# Altium footprint library MB631.PcbLib: 50 footprints (part 2 of 4)
Each footprint in its own frame and in the unit in brackets; x right, y up, seen from the top. Pads: shape width x height; smd on the part's side, far side on the other; paste and mask are expansions set on the pad; w line width, h text height; cw(c..) or ccw(c..) is an arc to the next point about the centre after c.
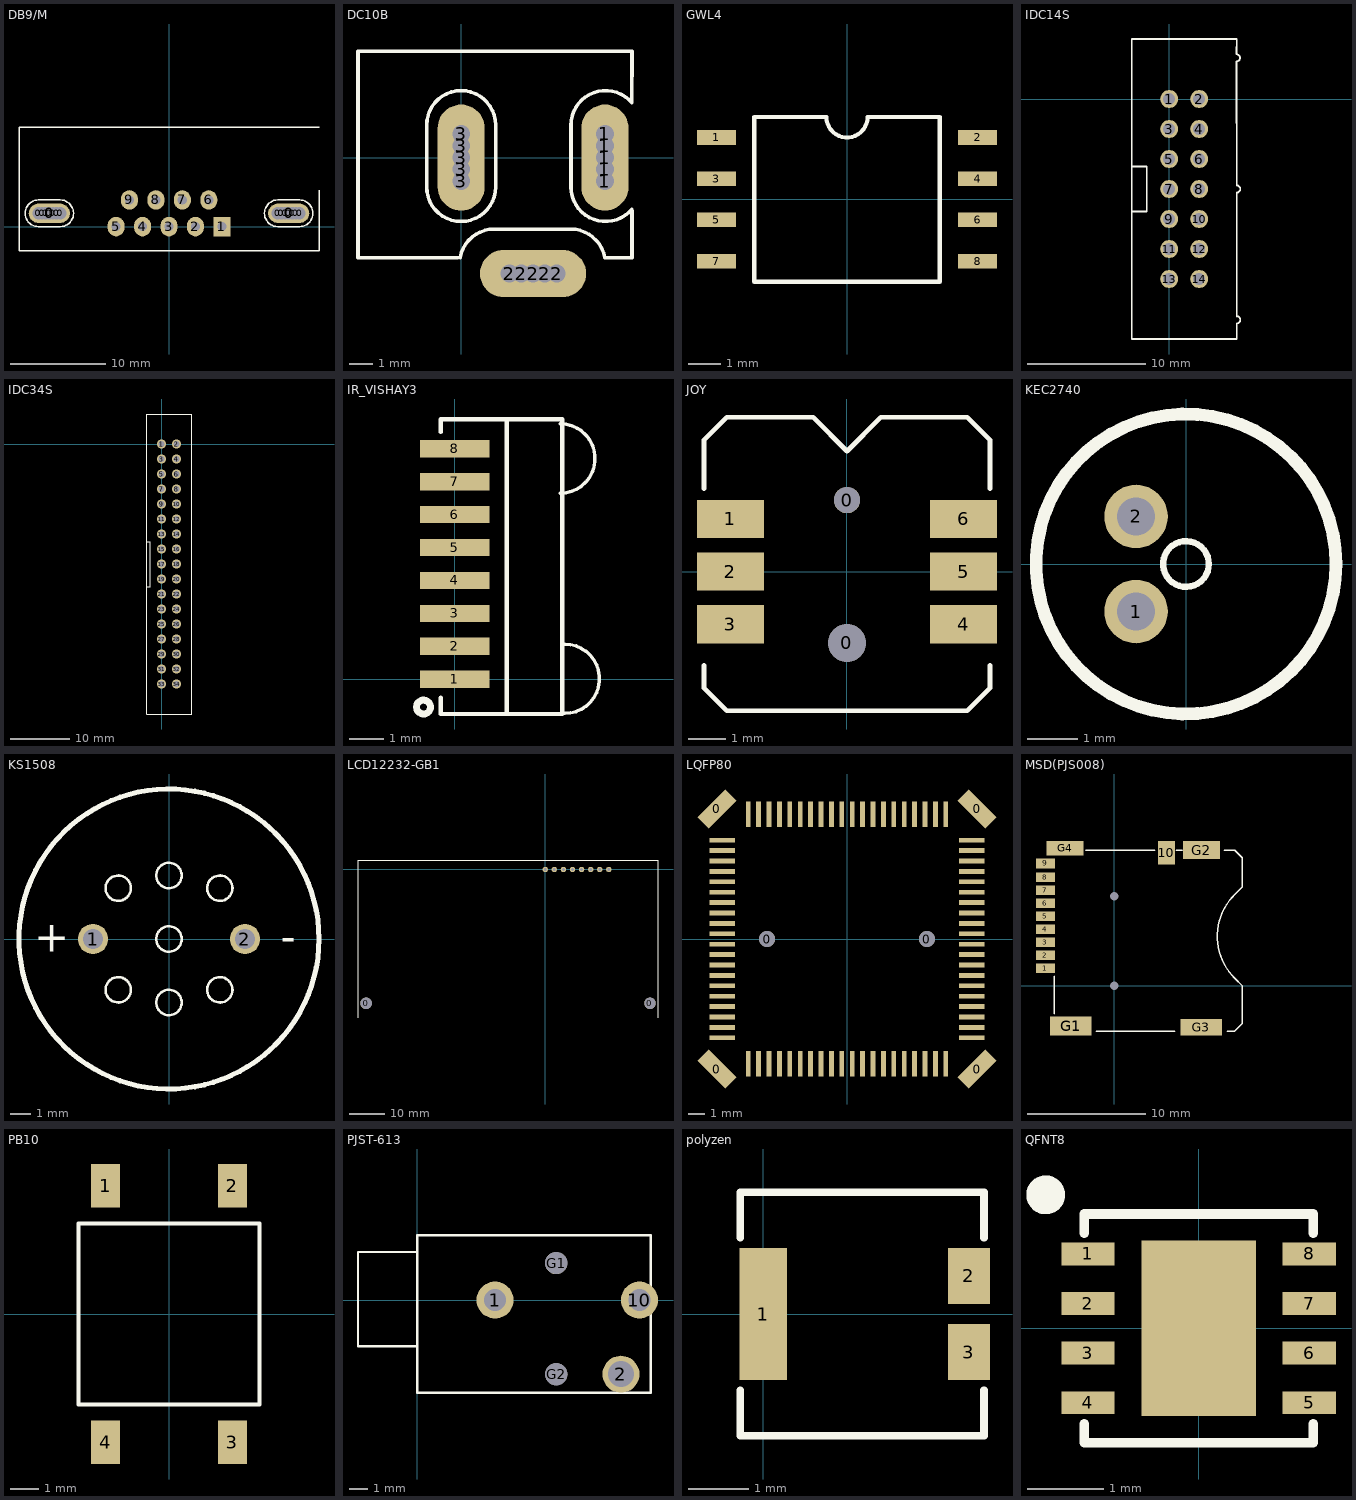
[diagram p1: the footprints below, top view; thin cyan lines are the x and y axes]

## DB9/M [mil]
pads (25):
  round 50 hole 50: 0(-538,55) 0(-523,55) 0(-508,55) 0(-493,55) 0(-478,55) 0(-463,55) 0(-448,55) 0(448,55) 0(463,55) 0(478,55) 0(493,55) 0(508,55) 0(523,55) 0(538,55)
  oval 170x80 hole 50: 0(-493,55) 0(493,55)
  rect 70x80 hole 38: 1(218,0)
  oval 70x80 hole 38: 2(109,0) 3(0,0) 4(-109,0) 5(-218,0) 6(164,110) 7(55,110) 8(-54,110) 9(-163,110)
Top Overlay:
  lines w6: 618,150 618,-100 -618,-100 -618,410 618,410 ; -538,0 cw(c-538,55) -538,110 -448,110 cw(c-448,55) -448,0 -538,0 ; 448,0 cw(c448,55) 448,110 538,110 cw(c538,55) 538,0 448,0

## DC10B [mil]
pads (15):
  round 45 hole 30: 1(244.09,-40) 1(244.09,-20) 1(244.09,20) 1(244.09,40) 2(82.05,-196.85) 2(102.05,-196.85) 2(142.05,-196.85) 2(162.05,-196.85) 3(0,-40) 3(0,-20) 3(0,20) 3(0,40)
  oval 80x180 hole 30: 1(244.09,0) 3(0,0)
  oval 180x80 hole 30: 2(122.05,-196.85)
Top Overlay:
  lines w6: -6,-170 -175,-170 -175,180 290,180 289.83,92.62 ccw(c245,55) 186.48,55 186.48,-50 ccw(c245,-50) 289.83,-87.62 ; -1.63,-169.84 cw(c56,-180) 56,-121.48 186,-121.48 cw(c186,-180) 243.63,-169.84 ; 245,-170 290,-170 290,-90 ; -58.52,55 cw(c0,55) 58.52,55 ; -58.52,55 -58.52,55 ; -58.52,55 -58.52,-50 ccw(c0,-50) 58.52,-50 58.52,55 ; 58.52,55 58.52,55

## GWL4 [mm]
pads (8):
  rect 1.2x0.45 smd: 1(-4.02,1.905) 2(4.02,1.905) 3(-4.02,0.635) 4(4.02,0.635) 5(-4.02,-0.635) 6(4.02,-0.635) 7(-4.02,-1.905) 8(4.02,-1.905)
Top Overlay:
  lines w0.127: -2.858,-2.54 -2.858,2.54 -0.635,2.54 ccw(c0,2.54) 0.635,2.54 2.858,2.54 2.858,-2.54 -2.858,-2.54

## IDC14S [mil]
pads (14):
  round 60 hole 40: 1(0,0) 2(100,0) 3(0,-100) 4(100,-100) 5(0,-200) 6(100,-200) 7(0,-300) 8(100,-300) 9(0,-400) 10(100,-400) 11(0,-500) 12(100,-500) 13(0,-600) 14(100,-600)
Top Overlay:
  lines w6: 224,124 224,125 ; 224,149 cw(c224,137) 224,125 ; 224,150 225,200 -125,200 -125,-225 ; 225,-750 225,-800 -125,-800 -125,-375 ; 225,-748 ccw(c225,-736) 225,-724 ; 225,-726 225,-314 ; 225,-312 ccw(c225,-300) 225,-288 224,125 ; -125,-375 -75,-375 -75,-225 -125,-225 ; -125,-375 -125,-225

## IDC34S [mil]
pads (34):
  round 60 hole 40: 1(0,0) 2(100,0) 3(0,-100) 4(100,-100) 5(0,-200) 6(100,-200) 7(0,-300) 8(100,-300) 9(0,-400) 10(100,-400) 11(0,-500) 12(100,-500) 13(0,-600) 14(100,-600) 15(0,-700) 16(100,-700) 17(0,-800) 18(100,-800) 19(0,-900) 20(100,-900) 21(0,-1000) 22(100,-1000) 23(0,-1100) 24(100,-1100) 25(0,-1200) 26(100,-1200) 27(0,-1300) 28(100,-1300) 29(0,-1400) 30(100,-1400) 31(0,-1500) 32(100,-1500) 33(0,-1600) 34(100,-1600)
Top Overlay:
  lines w5: -100,-950 -75,-950 -75,-650 -100,-650
  lines w6: -100,-1800 200,-1800 200,200 -100,200 -100,-650 -100,-950 -100,-1800

## IR_VISHAY3 [mm]
pads (8):
  rect 2x0.5 smd: 1(0,0) 2(0,0.95) 3(0,1.9) 4(0,2.85) 5(0,3.8) 6(0,4.75) 7(0,5.7) 8(0,6.65)
Top Overlay:
  circle w0.2: c-0.9,-0.8 r0.2
  lines w0.1: 3.048,5.366 ccw(c3.048,6.366) 3.048,7.366 ; 3.175,-0.984 ccw(c3.175,0.016) 3.175,1.016
  lines w0.127: -0.4,-0.527 -0.4,-1 3.1,-1 3.1,7.5 -0.4,7.5 -0.4,7.131 ; 1.5,-1 1.5,7.5

## JOY [mm]
pads (8):
  round 1 hole 1 unplated: 0(0,-1.9)
  round 0.7 hole 0.7 unplated: 0(0,1.9)
  rect 1.778x1.016 smd: 1(-3.1,1.4) 2(-3.1,0) 3(-3.1,-1.4) 4(3.1,-1.4) 5(3.1,0) 6(3.1,1.4)
Top Overlay:
  lines w0.127: -3.8,-2.5 -3.8,-3.1 -3.2,-3.7 2.6,-3.7 3.2,-3.7 3.8,-3.1 3.8,-2.5 ; -3.8,2.2 -3.8,3.5 -3.2,4.1 -0.9,4.1 0,3.2 0.9,4.1 3.2,4.1 3.8,3.5 3.8,2.2

## KEC2740 [mm]
pads (2):
  round 1.27 hole 0.762: 1(-1,-0.95) 2(-1,0.95)
Top Overlay:
  circle w0.254: c0,0 r3
  circle w0.127: c0,0 r0.458

## KS1508 [mil]
pads (2):
  round 60 hole 40: 1(-149.61,0) 2(149.61,0)
Top Overlay:
  circle w5: c0,0 r25
  circle w10: c0,0 r295.28
  circle w5: c0,125 r25
  circle w5: c0,-125 r25
  circle w5: c100,-100 r25
  circle w5: c-100,-100 r25
  circle w5: c100,100 r25
  circle w5: c-100,100 r25
  text "-" at 220,-25 h60
  text "+" at -265,-25 h60

## LCD12232-GB1 [mil]
pads (10):
  round 125.98 hole 125.98 unplated: 0(-1975.98,-1475) 0(1153.94,-1475)
  round 60 hole 30: 1(0,0) 2(100,0) 3(200,0) 4(300,0) 5(400,0) 6(500,0) 7(600,0) 8(700,0)
Top Overlay:
  lines w5: -2064.57,-1632.28 -2064.57,100 1242.52,100 1242.52,-1632.28

## LQFP80 [mm]
pads (86):
  rect 1x2.5 smd rot 45: 0(-8.13,-8.13) 0(8.13,8.13)
  rect 1x2.5 smd rot 135: 0(-8.13,8.13) 0(8.13,-8.13)
  round 1 hole 1 unplated: 0(-5,0) 0(5,0)
  rect 1.6x0.3 smd: 1(-7.8,6.175) 2(-7.8,5.525) 3(-7.8,4.875) 4(-7.8,4.225) 5(-7.8,3.575) 6(-7.8,2.925) 7(-7.8,2.275) 8(-7.8,1.625) 9(-7.8,0.975) 10(-7.8,0.325) 11(-7.8,-0.325) 12(-7.8,-0.975) 13(-7.8,-1.625) 14(-7.8,-2.275) 15(-7.8,-2.925) 16(-7.8,-3.575) 17(-7.8,-4.225) 18(-7.8,-4.875) 19(-7.8,-5.525) 20(-7.8,-6.175) 41(7.8,-6.175) 42(7.8,-5.525) 43(7.8,-4.875) 44(7.8,-4.225) 45(7.8,-3.575) 46(7.8,-2.925) 47(7.8,-2.275) 48(7.8,-1.625) 49(7.8,-0.975) 50(7.8,-0.325) 51(7.8,0.325) 52(7.8,0.975) 53(7.8,1.625) 54(7.8,2.275) 55(7.8,2.925) 56(7.8,3.575) 57(7.8,4.225) 58(7.8,4.875) 59(7.8,5.525) 60(7.8,6.175)
  rect 0.3x1.6 smd: 21(-6.175,-7.8) 22(-5.525,-7.8) 23(-4.875,-7.8) 24(-4.225,-7.8) 25(-3.575,-7.8) 26(-2.925,-7.8) 27(-2.275,-7.8) 28(-1.625,-7.8) 29(-0.975,-7.8) 30(-0.325,-7.8) 31(0.325,-7.8) 32(0.975,-7.8) 33(1.625,-7.8) 34(2.275,-7.8) 35(2.925,-7.8) 36(3.575,-7.8) 37(4.225,-7.8) 38(4.875,-7.8) 39(5.525,-7.8) 40(6.175,-7.8) 61(6.175,7.8) 62(5.525,7.8) 63(4.875,7.8) 64(4.225,7.8) 65(3.575,7.8) 66(2.925,7.8) 67(2.275,7.8) 68(1.625,7.8) 69(0.975,7.8) 70(0.325,7.8) 71(-0.325,7.8) 72(-0.975,7.8) 73(-1.625,7.8) 74(-2.275,7.8) 75(-2.925,7.8) 76(-3.575,7.8) 77(-4.225,7.8) 78(-4.875,7.8) 79(-5.525,7.8) 80(-6.175,7.8)

## MSD(PJS008) [mm]
pads (16):
  round 0.6 hole 0.7: 0(0,0) 0(0,7.55)
  rect 1.6x0.8 smd: 1(-5.8,1.475) 2(-5.8,2.575) 3(-5.8,3.675) 4(-5.8,4.775) 5(-5.8,5.875) 6(-5.8,6.975) 7(-5.8,8.075) 8(-5.8,9.175)
  rect 1.6x0.85 smd: 9(-5.8,10.325)
  rect 1.4x1.95 smd: 10(4.4,11.225)
  rect 3.5x1.6 smd: G1(-3.65,-3.4)
  rect 3.1x1.5 smd: G2(7.35,11.45)
  rect 3.5x1.4 smd: G3(7.35,-3.5)
  rect 3.1x1.2 smd: G4(-4.15,11.6)
Top Overlay:
  lines w0.127: -5.075,-2.35 -5.075,-1.925 -5.075,0.8 ; -2.413,11.43 3.429,11.43 ; -1.524,-3.81 5.08,-3.81 ; 5.207,11.43 5.715,11.43 ; 9.271,11.43 10.16,11.43 10.795,10.795 10.795,8.341 10.16,7.706 ccw(c13.696,4.171) 10.16,0.635 10.8,-0.005 10.8,-2.535 10.795,-2.54 10.795,-3.175 10.16,-3.81 9.525,-3.81

## PB10 [mil]
pads (4):
  rect 40x60 smd: 1(-87.5,177.17) 2(87.5,177.17) 3(87.5,-177.17) 4(-87.5,-177.17)
Top Overlay:
  lines w6: -125,-125 -125,125 125,125 125,-125 -125,-125

## PJST-613 [mm]
pads (5):
  round 2 hole 1.2: 1(4.2,0) 10(12,0)
  round 2 hole 1.4: 2(11,-4)
  round 1.2 hole 1.2 unplated: G1(7.5,2) G2(7.5,-4)
Top Overlay:
  lines w0.127: 0,-2.5 -3.2,-2.5 -3.2,2.6 0,2.6 ; 0,-5 0,3.5 12.6,3.5 12.6,-5 0,-5

## polyzen [mm]
pads (3):
  rect 0.8x2.21 smd: 1(0,0)
  rect 0.7x0.94 smd: 2(3.429,0.635) 3(3.429,-0.635)
Top Overlay:
  lines w0.127: -0.381,-1.27 -0.381,-2.032 3.683,-2.032 3.683,-1.27 ; -0.381,1.27 -0.381,2.032 3.683,2.032 3.683,1.27

## QFNT8 [mm]
pads (9):
  rect 0.7x0.3 smd: 1(-1.45,0.975) 2(-1.45,0.325) 3(-1.45,-0.325) 4(-1.45,-0.975) 5(1.45,-0.975) 6(1.45,-0.325) 7(1.45,0.325) 8(1.45,0.975)
  rect 1.5x2.3 smd: ""(0,0)
Top Overlay:
  circle w0.254: c-2.004,1.75 r0.127
  lines w0.127: -1.5,-1.25 -1.5,-1.5 1.5,-1.5 1.5,-1.25 ; -1.5,1.25 -1.5,1.5 1.5,1.5 1.5,1.25